# EAGLE library part OV7670_FIFO_CAMERA (library me433-2021)
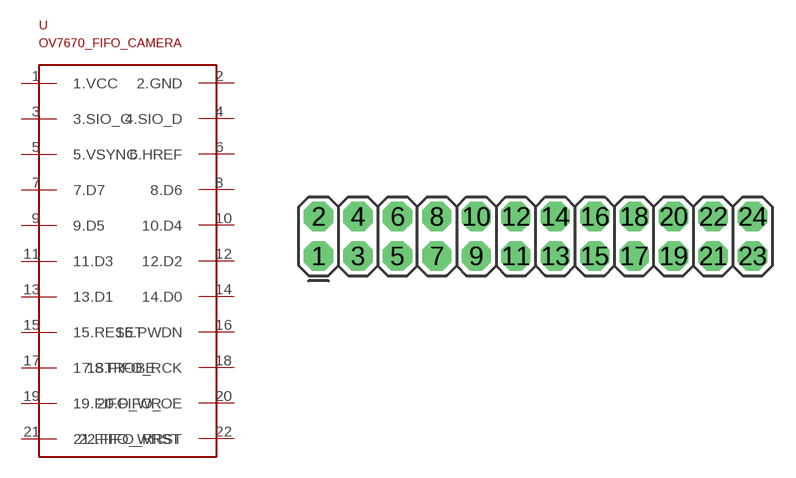
[diagram p11: symbol with the pads of 2X12; footprint 2X12]

Designator prefix -

## OV7670_FIFO_CAMERA  [2X12]
1  1.VCC
2  2.GND
3  3.SIO_C
4  4.SIO_D
5  5.VSYNC
6  6.HREF
7  7.D7
8  8.D6
9  9.D5
10  10.D4
11  11.D3
12  12.D2
13  13.D1
14  14.D0
15  15.RESET
16  16.PWDN
17  17.STROBE
18  18.FIFO_RCK
19  19.FIFO_WR
20  20.FIFO_OE
21  21.FIFO_WRST
22  22.FIFO_RRST

## Footprint 2X12 (pad centres in mm)
Plated Through Hole - 2x12 Specifications: Pin count:24 Pin pitch:0.1" Example device(s): CONN_12x2
drill 1.016 pad 1.88 octagon: 1 0,0; 2 0,2.54; 3 2.54,0; 4 2.54,2.54; 5 5.08,0; 6 5.08,2.54; 7 7.62,0; 8 7.62,2.54; 9 10.16,0; 10 10.16,2.54; 11 12.7,0; 12 12.7,2.54; 13 15.24,0; 14 15.24,2.54; 15 17.78,0; 16 17.78,2.54; 17 20.32,0; 18 20.32,2.54; 19 22.86,0; 20 22.86,2.54; 21 25.4,0; 22 25.4,2.54; 23 27.94,0; 24 27.94,2.54